# Altium schematic symbol library S_TACTSWITCH.Schlib: 1 symbol
Pins are listed as number, name and electrical type; pins without a type are passive.

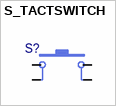
[diagram p0: symbol S_TACTSWITCH]

## S_TACTSWITCH
designator S?  (value not drawn)
pins: 1, 2, 3, 4